# Altium schematic symbol library Connectors.SchLib: 36 symbols
Pins are listed as number, name and electrical type; pins without a type are passive.

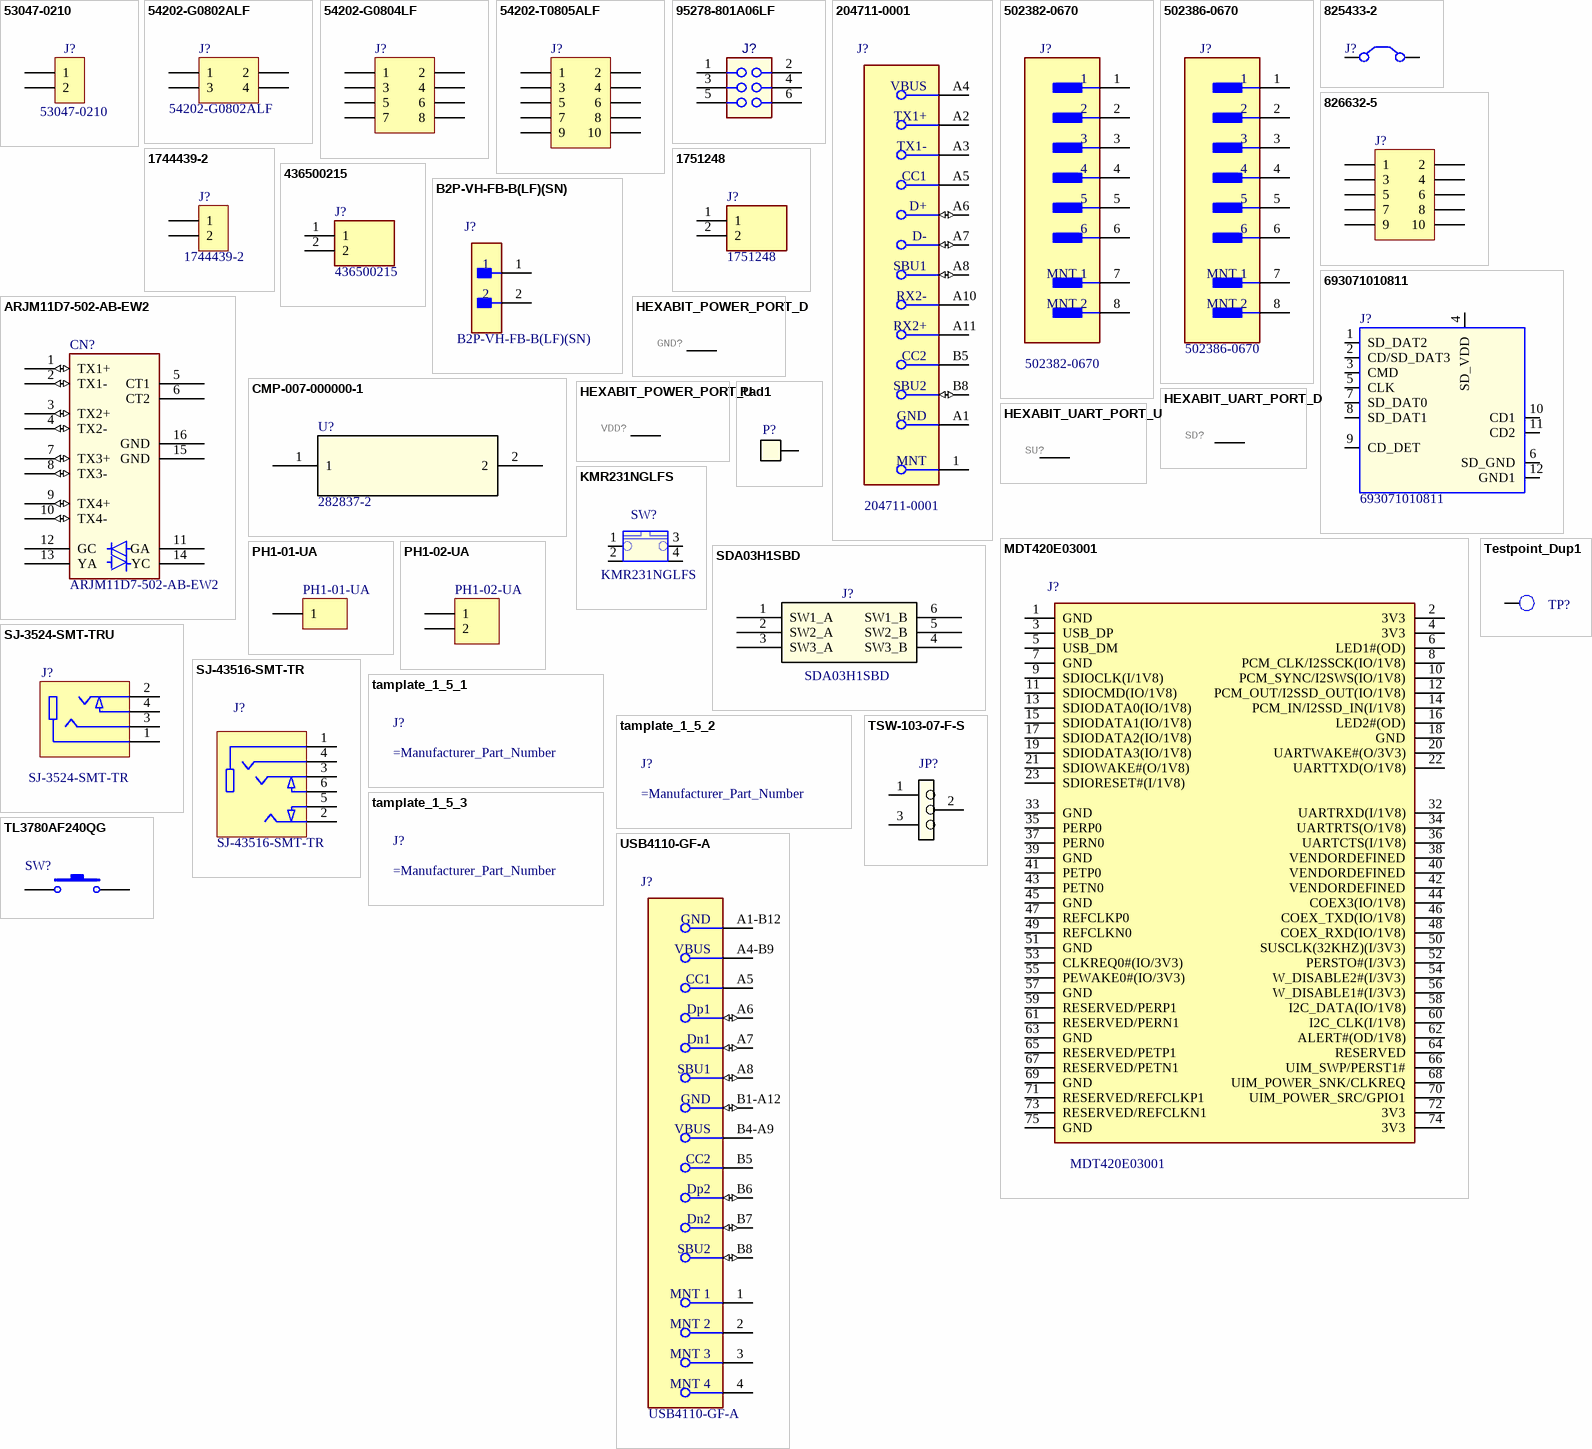
[diagram p0: symbols 53047-0210 to USB4110-GF-A]

## 53047-0210
designator J?
PicoBlade 53047 2-Position Shrouded Header Male Blade 0.049" (1.25mm) Natural Through Hole; Manufacturer: Molex; Library: Hexabitz; Plating: 154ConductorMaterial; Body Plating: Tin; Contact Resistance: 20mR; Current Rating: 1A; Voltage Rating: 125V; Number of Positions: 2; Gender: 29Gender; Insulation Resistance: 100MR; Max Current Rating: 3A; Glow Wire Compliant: 16Compliance; Supplier: Digikey; Supplier Part Number: WM1731-ND; RoHS: Yes; Category: Headers and Wire Housings; Stock: 12465; Pricing: 1=0.18, 10=0.151, 100=0.1279, 500=0.11412, 1000=0.10865, 5000=0.09698, 10000=0.09235 (USD); Mounting Technology: Through Hole; Contact Plating: Tin,Gold; Contact Material: Bronze,Brass,Tin; Housing Color: Black; Housing Material: Polyamide; Color: 50Colour; Min Operating Temperature: -40°C; Max Operating Temperature: 85°C; Number of Rows: 1; Packaging: Tray; Package Quantity: 5000; Termination: Solder; Number of Contacts: 2; Orientation: Vertical; Number of Circuits: 2; Series: PicoBlade; Voltage Rating (AC): 125V; Working Voltage: 125V; Voltage Rating (DC): 125V; Number of Poles: 2; Length: 71.1mm; Height: 11.43mm; Pitch: 1.25mm; Lead Pitch: 1.25mm; Depth: 6.6mm; Radiation Hardening: No; Lead Free: Lead Free; RoHS Compliant: Yes; Reach SVHC Compliant: Unknown; Flammability Rating: 5813Flammability; Supplier 1: Digikey; Supplier Part Number 1: WM1731-ND; Manufacturer Part Number: 53047-0210
footprint CON_MOLEX_53047-0210
pins: 1, 2

## 54202-G0802ALF
designator J?
Conn Unshrouded Header HDR 4 POS 2.54mm Solder ST SMD T/R; Manufacturer: Amphenol ICC / FCI; Library: Hexabitz; Current Rating: 3A; Voltage Rating: 1.5kV; Number of Positions: 4; Insulation Resistance: 5GR; Gender: Male; Row Spacing: 0.1inch; Supplier: Digikey; Supplier Part Number: 609-54202-G0802ALFDKR-ND; RoHS: Yes; Category: Connectors; Stock: 807; Pricing: 1=0.7, 10=0.598, 100=0.5083 (USD); Mounting Technology: Surface Mount; Color: Black; Contact Plating: Gold,GXT; Contact Material: Bronze; Housing Material: Thermoplastic; Packaging: Tape and Reel; Number of Rows: 2; Contact Gender: Male; Termination: Solder; Number of Contacts: 4; Package Quantity: 300; Series: BERGSTIK®, MezzSelect™, Basics+; Contact Type: Male Pin; Pitch: 2.54mm; Contact Mating Length: 0.23inch; Radiation Hardening: No; RoHS Compliant: Yes; ComponentLink1URL: https://datasheet.ciiva.com/10149/54202-10149869.pdf?src-supplier=Avnet; ComponentLink1Description: https://datasheet.ciiva.com/10149/54202-10149869.pdf?src-supplier=Avnet; Manufacturer Part Number: 54202-G0802ALF
footprint AMPHENOL_54202-G0802ALF
pins: 1, 2, 3, 4

## 54202-G0804LF
designator J?  (value not drawn)
Conn Unshrouded Header HDR 8 POS 2.54mm Solder ST SMD Bag; Manufacturer: Amphenol ICC / FCI; Library: Hexabitz; Current Rating: 3A; Voltage Rating: 1.5kV; Number of Positions: 8; Insulation Resistance: 5GR; Gender: Male; Row Spacing: 0.1inch; Supplier: Digikey; Supplier Part Number: 609-54202-G0804LF-ND; Manufacturer Part Number: 54202-G0804LF; RoHS: Yes; Category: Headers and Wire Housings; Stock: 15666; Pricing: 1=0.67, 10=0.566, 100=0.4811, 500=0.42942, 1000=0.4089, 5000=0.36501, 10000=0.34759 (USD); Mounting Technology: Surface Mount; Contact Plating: Gold,GXT; Contact Material: Bronze; Color: Black; Housing Color: Black; Housing Material: Thermoplastic; Min Operating Temperature: -65°C; Max Operating Temperature: 125°C; Number of Rows: 2; Contact Gender: Male; Termination: Solder; Number of Contacts: 8; Max Voltage Rating (AC): 1.5kV; Orientation: Straight; Package Quantity: 100; Packaging: Bulk; Series: BERGSTIK®, MezzSelect™, Basics+; Contact Type: Male Pin; Length: 10.16mm; Pitch: 2.54mm; Contact Mating Length: 0.23inch; Depth: 4.83mm; Radiation Hardening: No; Flammability Rating: UL94 V-0; RoHS Compliant: Yes; ComponentLink1URL: https://datasheet.ciiva.com/18669/54202-18669805.pdf?src-supplier=Digikey; ComponentLink1Description: https://datasheet.ciiva.com/18669/54202-18669805.pdf?src-supplier=Digikey; Supplier 1: Digikey; Supplier Part Number 1: 609-54202-G0804LF-ND
footprint 54202-G0804LF
pins: 1, 2, 3, 4, 5, 6, 7, 8

## 54202-T0805ALF
designator J?  (value not drawn)
Connector Bergstik 0.10-SMT.DOUBLE Row.tin | Amphenol Fci (amphenol Cs) 54202T0805ALF; Manufacturer: Amphenol Communications Solutions; Library: Hexabitz; Number of Contacts: 10NUMBER; Supplier: Digikey; Supplier Part Number: 609-5381-6-ND; Manufacturer Part Number: 54202-T0805ALF; RoHS: No; Category: Connectors; Stock: 730; Pricing: 1=0.78, 10=0.666, 100=0.5655 (USD); Contact Plating: 154ConductorMaterial; Color: 46Colour; Packaging: 10Packaging; Supplier 1: Digikey; Supplier Part Number 1: 609-5381-6-ND
footprint Header_10POS_0015910100
pins: 1, 2, 3, 4, 5, 6, 7, 8, 9, 10

## 95278-801A06LF
designator J?  (value not drawn)
Conn Unshrouded Header HDR 6 POS 2.54mm Solder ST Top Entry SMD BergStik® T/R; Manufacturer: Amphenol ICC / FCI; Current Rating: 3A; Voltage Rating: 1.5kV; Number of Positions: 6; Insulation Resistance: 5GR; Gender: Male; Row Spacing: 0.1inch; Library: Hexabitz; Supplier: Digikey; Supplier Part Number: 609-5161-6-ND; Manufacturer Part Number: 95278-801A06LF; RoHS: Yes; Category: Connectors; Stock: 5681; Pricing: 1=0.95, 10=0.809, 100=0.6874 (USD); Mounting Technology: Surface Mount; Contact Plating: Gold,GXT; Contact Material: Bronze; Color: Black; Housing Color: Black; Housing Material: Thermoplastic; Min Operating Temperature: -65°C; Max Operating Temperature: 125°C; Number of Rows: 2; Contact Gender: Male; Termination: Solder; Max Voltage Rating (AC): 1.5kV; Number of Contacts: 6; Orientation: Straight; Packaging: Tape and Reel; Package Quantity: 350; Series: BERGSTIK®, MezzSelect™, Basics+; Contact Type: Male Pin; Length: 7.62mm; Pitch: 2.54mm; Contact Mating Length: 0.232inch; Depth: 4.83mm; Radiation Hardening: No; Flammability Rating: UL94 V-0; RoHS Compliant: Yes; ComponentLink1URL: https://datasheet.ciiva.com/724/95278-724965.pdf?src-supplier=Digikey; ComponentLink1Description: https://datasheet.ciiva.com/724/95278-724965.pdf?src-supplier=Digikey; ComponentLink2URL: https://datasheet.ciiva.com/10146/95278-10146127.pdf?src-supplier=Avnet; ComponentLink2Description: https://datasheet.ciiva.com/10146/95278-10146127.pdf?src-supplier=Avnet; Supplier 1: Digikey; Supplier Part Number 1: 609-5161-6-ND
footprint 95278801A06LF
pins: 1 A1, 2 B1, 3 A2, 4 B2, 5 A3, 6 B3

## 204711-0001
designator J?
USB Connector, 24 Contact(s), Female, Straight, Surface Mount Terminal, Locking, Receptacle; Manufacturer: Molex; Library: Hexabitz; Plating: Gold; USB Standard: USB 3.1; Number of Circuits: 24; Voltage Rating: 30V; Supplier: Digikey; Supplier Part Number: 900-2047110001DKR-ND; RoHS: No; Category: USB Connectors; Stock: 13074; Pricing: 1=2.89, 10=2.457, 25=2.3028, 50=2.1928, 100=2.088, 250=1.95724 (USD); Pins: 24; Contact Material: Nickel,Gold; Contact Plating: Gold; Min Operating Temperature: -30°C; Max Operating Temperature: 85°C; Gender: Female; Number of Contacts: 24; Number of Rows: 2; Orientation: Vertical; Height: 9.25mm; ComponentLink1URL: http://www.farnell.com/datasheets/2860596.pdf?src-supplier=Newark; ComponentLink1Description: http://www.farnell.com/datasheets/2860596.pdf?src-supplier=Newark; ComponentLink2URL: https://datasheet.octopart.com/2047110001-Molex-datasheet-151917719.pdf?src-supplier=Sager+Electronics; ComponentLink2Description: https://datasheet.octopart.com/2047110001-Molex-datasheet-151917719.pdf?src-supplier=Sager+Electronics; Manufacturer Part Number: 204711-0001
footprint FP-204711-0001-MFG; pin to pad A1>A1+A12+B1+B12 A1-B12>none A4>A4+A9+B4+B9 A4-B9>none A5>none A6>none A7>none A8>none B1-A12>none B4-A9>none B5>none B6>none B7>none B8>none
pins: 1 MNT, A1 GND, A2 TX1+, A3 TX1-, A4 VBUS (power), A5 CC1 (power), A6 Dp1 (io), A7 Dn1 (io), A8 SBU1 (io), A10 RX2-, A11 RX2+, B5 CC2 (power), B8 SBU2 (io)
text: D+; D-

## 502382-0670
designator J?
Board Connector, 6 Contact(s), 1 Row(s), Female, Straight, Surface Mount Terminal, Receptacle; Manufacturer: Molex; Library: Hexabitz; Plating: 154ConductorMaterial; Insulation Resistance: 100MR; Glow Wire Compliant: 16Compliance; Supplier: Digikey; Supplier Part Number: WM4783DKR-ND; RoHS: Yes; Category: Headers and Wire Housings; Stock: 20732; Pricing: 1=0.67, 10=0.568, 100=0.4827, 500=0.43084 (USD); Material: 4386ConductorMaterial; Flammability Rating: 5813Flammability; ComponentLink1URL: https://datasheet.ciiva.com/5148/5023820670-pcb-receptacles-179370-5148504.pdf?src-supplier=Mouser; ComponentLink1Description: https://datasheet.ciiva.com/5148/5023820670-pcb-receptacles-179370-5148504.pdf?src-supplier=Mouser; ComponentLink2URL: https://datasheet.ciiva.com/11746/0900766b80d889a4-11746594.pdf?src-supplier=Rs; ComponentLink2Description: https://datasheet.ciiva.com/11746/0900766b80d889a4-11746594.pdf?src-supplier=Rs; ComponentLink3URL: https://datasheet.ciiva.com/26288/5023820670-pcb-receptacles-26288709.pdf?src-supplier=Onlinecomponents.com; ComponentLink3Description: https://datasheet.ciiva.com/26288/5023820670-pcb-receptacles-26288709.pdf?src-supplier=Onlinecomponents.com; ComponentLink4URL: https://datasheet.ciiva.com/10086/5023820670-pcb-receptacles-10086471.pdf?src-supplier=Avnet; ComponentLink4Description: https://datasheet.ciiva.com/10086/5023820670-pcb-receptacles-10086471.pdf?src-supplier=Avnet; ComponentLink5URL: https://datasheet.ciiva.com/46443/1482060-46443515.pdf?src-supplier=Element14; ComponentLink5Description: https://datasheet.ciiva.com/46443/1482060-46443515.pdf?src-supplier=Element14; ComponentLink6URL: https://datasheet.ciiva.com/14156/502382-2-7pol-eng-datasheet-14156156.pdf?src-supplier=Distrelec; ComponentLink6Description: https://datasheet.ciiva.com/14156/502382-2-7pol-eng-datasheet-14156156.pdf?src-supplier=Distrelec; ComponentLink7URL: https://datasheet.ciiva.com/24419/5023820670-pcb-receptacles-24419895.pdf?src-supplier=Onlinecomponents.com; ComponentLink7Description: https://datasheet.ciiva.com/24419/5023820670-pcb-receptacles-24419895.pdf?src-supplier=Onlinecomponents.com; ComponentLink8URL: https://datasheet.ciiva.com/756/5023820270-sd-756002.pdf?src-supplier=Digikey; ComponentLink8Description: https://datasheet.ciiva.com/756/5023820270-sd-756002.pdf?src-supplier=Digikey; ComponentLink9URL: https://datasheet.ciiva.com/756/5023820270-sd-756009.pdf?src-supplier=Digikey; ComponentLink9Description: https://datasheet.ciiva.com/756/5023820270-sd-756009.pdf?src-supplier=Digikey; ComponentLink10URL: https://datasheet.ciiva.com/756/5023820270-sd-756016.pdf?src-supplier=Digikey; ComponentLink10Description: https://datasheet.ciiva.com/756/5023820270-sd-756016.pdf?src-supplier=Digikey; Supplier 1: Digikey; Supplier Part Number 1: WM4783DKR-ND; Supplier 2: Mouser; Supplier Part Number 2: 538-502382-0670; Manufacturer Part Number: 502382-0670
footprint FP-BM06B-GHS-TBT_LF_SN-MFG
pins: 1, 2, 3, 4, 5, 6, 7 MNT 1, 8 MNT 2

## 502386-0670
designator J?
1.25mm Pitch CLIK-Mate Wire-to-Board PCB Receptacle, Single Row, Right-Angle, Tin (Sn) Plating, 6 Circuits; Manufacturer: Molex; Library: Hexabitz; Plating: 154ConductorMaterial; Insulation Resistance: 100MR; Glow Wire Compliant: 16Compliance; Supplier: Digikey; Supplier Part Number: WM3917CT-ND; RoHS: Yes; Category: Headers and Wire Housings; Stock: 12558; Pricing: 1=0.72, 10=0.609, 25=0.5708, 50=0.5436, 100=0.5175, 250=0.48508, 500=0.4619 (USD); Material: 4386ConductorMaterial; Flammability Rating: 5813Flammability; ComponentLink1URL: https://datasheet.ciiva.com/755/5023860670-sd-755808.pdf?src-supplier=Digikey; ComponentLink1Description: https://datasheet.ciiva.com/755/5023860670-sd-755808.pdf?src-supplier=Digikey; ComponentLink2URL: https://datasheet.ciiva.com/7167/1630903-7167418.pdf?src-supplier=Newark; ComponentLink2Description: https://datasheet.ciiva.com/7167/1630903-7167418.pdf?src-supplier=Newark; ComponentLink3URL: https://datasheet.ciiva.com/5159/5023860670-pcb-receptacles-179492-5159020.pdf?src-supplier=Mouser; ComponentLink3Description: https://datasheet.ciiva.com/5159/5023860670-pcb-receptacles-179492-5159020.pdf?src-supplier=Mouser; ComponentLink4URL: https://datasheet.ciiva.com/30166/4405023860670-pcb-receptacles-30166544.pdf?src-supplier=Onlinecomponents.com; ComponentLink4Description: https://datasheet.ciiva.com/30166/4405023860670-pcb-receptacles-30166544.pdf?src-supplier=Onlinecomponents.com; ComponentLink5URL: https://datasheet.ciiva.com/9468/5023860670-pcb-receptacles-9468008.pdf?src-supplier=Avnet; ComponentLink5Description: https://datasheet.ciiva.com/9468/5023860670-pcb-receptacles-9468008.pdf?src-supplier=Avnet; ComponentLink6URL: https://datasheet.ciiva.com/46443/5023860670-sd-46443516.pdf?src-supplier=Element14; ComponentLink6Description: https://datasheet.ciiva.com/46443/5023860670-sd-46443516.pdf?src-supplier=Element14; ComponentLink7URL: https://datasheet.ciiva.com/755/5023860670-sd-755817.pdf?src-supplier=Digikey; ComponentLink7Description: https://datasheet.ciiva.com/755/5023860670-sd-755817.pdf?src-supplier=Digikey; Supplier 1: Digikey; Supplier Part Number 1: WM3917CT-ND; Supplier 2: Mouser; Supplier Part Number 2: 538-502386-0670; Manufacturer Part Number: 502386-0670
footprint FP-SM06B-GHS-TB_LF_SN-MFG
pins: 1, 2, 3, 4, 5, 6, 7 MNT 1, 8 MNT 2

## 825433-2
designator J?  (value not drawn)
Conn Unshrouded Header HDR 2 POS 2.54mm Solder ST Thru-Hole Automotive Box; Manufacturer: TE Connectivity; Library: Hexabitz; Contact Style: 4753ConnectorType; Insulation Resistance: 5GR; Gender: 29Gender; Lead Length: 3.19786mm; Supplier: Digikey; Supplier Part Number: A106464-ND; Manufacturer Part Number: 825433-2; RoHS: Yes; Category: Headers and Wire Housings; Stock: 28064; Pricing: 1=0.47, 10=0.4, 100=0.3398, 500=0.30326, 3000=0.26723, 6000=0.25448, 12000=0.24741 (USD); ELV: 5681ELVCompliant; Lead Free: 5697LeadFree; ComponentLink1URL: https://datasheet.ciiva.com/11746/0900766b800304ef-11746504.pdf?src-supplier=Rs; ComponentLink1Description: https://datasheet.ciiva.com/11746/0900766b800304ef-11746504.pdf?src-supplier=Rs; ComponentLink2URL: https://datasheet.ciiva.com/29369/001094852-da-01-en-stiftleiste-1-reihig-0-0825433-2-29369866.pdf?src-supplier=Conrad; ComponentLink2Description: https://datasheet.ciiva.com/29369/001094852-da-01-en-stiftleiste-1-reihig-0-0825433-2-29369866.pdf?src-supplier=Conrad; ComponentLink3URL: https://datasheet.ciiva.com/6814/eng-cd-825433-s-basefilename-6814585.pdf?src-supplier=Digikey; ComponentLink3Description: https://datasheet.ciiva.com/6814/eng-cd-825433-s-basefilename-6814585.pdf?src-supplier=Digikey; Supplier 1: Digikey; Supplier Part Number 1: A106464-ND
footprint FP-M20-9990245-MFG
pins: 1 C1, 2 C2

## 826632-5
designator J?  (value not drawn)
Conn Unshrouded Header HDR 10 POS 2.54mm Solder ST Thru-Hole Automotive Box; Manufacturer: TE Connectivity; Library: Hexabitz; Gender: 29Gender; Contact Style: 4753ConnectorType; Insulation Resistance: 5GR; Lead Length: 3.19786mm; Supplier: Mouser; Supplier Part Number: 571-826632-5; Manufacturer Part Number: 826632-5; RoHS: Yes; Category: Headers and Wire Housings; Stock: 4620; Pricing: 1=1.21, 10=1.21, 50=1.21, 100=1.21, 1000=1.09, 10000=0.777 (USD); Lead Free: 5697LeadFree; ELV: 5681ELVCompliant; ComponentLink1URL: https://datasheet.ciiva.com/30067/8266325-30067120.pdf?src-supplier=Onlinecomponents.com; ComponentLink1Description: https://datasheet.ciiva.com/30067/8266325-30067120.pdf?src-supplier=Onlinecomponents.com; ComponentLink2URL: https://datasheet.ciiva.com/11747/0900766b80d7c358-11747876.pdf?src-supplier=Rs; ComponentLink2Description: https://datasheet.ciiva.com/11747/0900766b80d7c358-11747876.pdf?src-supplier=Rs; ComponentLink3URL: https://datasheet.ciiva.com/29369/001094804-da-01-en-stiftleiste-2-reihig-0-0826632-5-29369713.pdf?src-supplier=Conrad; ComponentLink3Description: https://datasheet.ciiva.com/29369/001094804-da-01-en-stiftleiste-2-reihig-0-0826632-5-29369713.pdf?src-supplier=Conrad; ComponentLink4URL: https://datasheet.ciiva.com/6816/eng-cd-826629-aa-basefilename-6816815.pdf?src-supplier=Digikey; ComponentLink4Description: https://datasheet.ciiva.com/6816/eng-cd-826629-aa-basefilename-6816815.pdf?src-supplier=Digikey; Supplier 1: Mouser; Supplier Part Number 1: 571-826632-5
footprint HDR2X5
pins: 1, 2, 3, 4, 5, 6, 7, 8, 9, 10

## 1744439-2
designator J?
Conn Shrouded Header HDR 2 POS 2.5mm Crimp ST Cable Mount Bag/Box; Manufacturer: TE Connectivity AMP; Library: Hexabitz; Number of Contacts: 2; Gender: Male; Connector Type: Plug,Header,Pin; Wire/Cable Type: Discrete; Backwall/Post Interruptions: No (Without); Connector System: Wire-to-Board; Contact Retention: Yes (With); PCB Mount Retention: With; PCB Mounting Orientation: Vertical; Contact Current Rating: 4.5A; Contact Style: Straight; Plating Thickness: 2.03um; Tail Length: 0.133inch; Wire/Cable Gauge: 18AWG; Supplier: Digikey; Supplier Part Number: A107503-ND; RoHS: Yes; Category: Connectors; Stock: 96; Pricing: 1=0.41, 10=0.347, 100=0.2944, 600=0.25938, 1200=0.247, 5400=0.22212, 10200=0.21237 (USD); Mounting Technology: Through Hole; Contact Plating: Tin,Bright; Contact Material: Copper Alloy; Housing Color: White; Housing Material: Nylon; Contact Shape: Circular; Contact Finish - Mating: TIN; Insulation Material: Nylon; Insulation Color: Natural; Min Operating Temperature: -67°C; Max Operating Temperature: 221°C; Number of Rows: 1; Packaging: Bag; Termination: Kinked Pin; Orientation: Vertical; Mating Alignment: Yes (With); Mating Retention: Yes (With); Number of Positions: 2; PCB Mount Alignment: No (Without); Package Quantity: 600; Strain Relief: No (Without); Fastening Type: Friction; Series: Economy Power 2.5; Contact Type: Male Pin; Length: 7.3mm; Width: 9.58mm; Height: 0.315inch; Pitch: 2.5mm; Radiation Hardening: No; ELV: Compliant; Flammability Rating: UL94 V-0; RoHS Compliant: Yes; ComponentLink1URL: https://www.te.com/commerce/DocumentDelivery/DDEController?Action=srchrtrv&amp;DocNm=1744439&amp;DocType=Customer+Drawing&amp;DocLang=English&src-supplier=Digikey; ComponentLink1Description: https://www.te.com/commerce/DocumentDelivery/DDEController?Action=srchrtrv&amp;DocNm=1744439&amp;DocType=Customer+Drawing&amp;DocLang=English&src-supplier=Digikey; ComponentLink2URL: http://www.te.com/commerce/DocumentDelivery/DDEController?Action=srchrtrv&DocNm=7-1773461-6EP2.5&DocType=Data+Sheet&DocLang=English&src-supplier=Avnet; ComponentLink2Description: http://www.te.com/commerce/DocumentDelivery/DDEController?Action=srchrtrv&DocNm=7-1773461-6EP2.5&DocType=Data+Sheet&DocLang=English&src-supplier=Avnet; Supplier 1: Digikey; Supplier Part Number 1: A107503-ND; Supplier 2: Mouser; Supplier Part Number 2: 571-1744439-2; Manufacturer Part Number: 1744439-2
footprint 17444392
pins: 1, 2

## 1751248
designator J?
Terminal Block; 10 A; 160 V; 3.5 mm; 26 to 16 AWG; 2; Screw; Solder; 2.5 kV; PA; Manufacturer_Name: Phoenix Contact; Voltage Rating: 200V; Number of Poles: 2; Max Current Rating: 12A; Current Rating: 13.5A; Max Supply Voltage: 160V; Number of Levels: 1; Current: 10A; Voltage: 300V; Gender: Male; Wire/Cable Gauge: 30AWG; Wire Gauge (Max): 26AWG; Wire Gauge (Min): 16AWG; Pitch: 3.5mm; Stripping Length: 5mm; Approvals: UL,CSA,cULus,CB,EAC; Library: Hexabitz; Datasheet Link: https://datasheet.datasheetarchive.com/originals/distributors/SFDatasheet-2/sf-00051377.pdf; Height: 8.65mm; Manufacturer_Part_Number: 1751248; Mouser Part Number: 651-1751248; Mouser Price/Stock: https://www.mouser.co.uk/ProductDetail/Phoenix-Contact/1751248?qs=bOnNDoERoR01kuhsqWf5xQ%3D%3D; Arrow Part Number: 1751248; Arrow Price/Stock: https://www.arrow.com/en/products/1751248/phoenix-contact?utm_currency=USD&region=nac; Supplier: Digikey; Supplier Part Number: 277-5719-ND; Manufacturer: Phoenix Contact; Manufacturer Part Number: 1751248; RoHS: Yes; Category: Terminal Blocks; Stock: 1969; Pricing: 1=1.54, 10=1.106, 25=0.996, 50=0.9814 (USD); Mounting Technology: Through Hole; Pins: 2; Housing Color: 49Colour; Color: Green; Weight: 0.040565oz; Material: Polyamide; Housing Material: Polyamide; Contact Material: Tin; Insulation Material: 4261ConductorMaterial; Min Operating Temperature: -40°C; Series: COMBICON MKDS; Packaging: Bulk; Number of Rows: 1; Number of Positions Per Level: 2; Termination: Screw; Number of Positions: 2; Number of Contacts: 2; Number of Circuits: 2; Orientation: Straight; Connector Type: Screw; Length: 7.3mm; Width: 12mm; Depth: 7.3mm; Radiation Hardening: No; RoHS Compliant: Yes; Lead Free: 5697LeadFree; Flammability Rating: UL94 V-0; Reach SVHC Compliant: Unknown; ComponentLink1URL: https://datasheet.ciiva.com/6745/1751248-6745498.pdf?src-supplier=Digikey; ComponentLink1Description: https://datasheet.ciiva.com/6745/1751248-6745498.pdf?src-supplier=Digikey; ComponentLink2URL: https://datasheet.ciiva.com/16046/1751248-16046278.pdf?src-supplier=Onlinecomponents.com; ComponentLink2Description: https://datasheet.ciiva.com/16046/1751248-16046278.pdf?src-supplier=Onlinecomponents.com; Supplier 1: Digikey; Supplier Part Number 1: 277-5719-ND
footprint 1751248
pins: 1, 2

## 436500215
designator J?
MOLEX 43650-0215 Header Single Row 180° 2p Tin Plating PCB Peg, GW Compatible; Library: Hexabitz; Plating: 154ConductorMaterial; Contact Resistance: 10mR; Max Current Rating: 5A; Voltage Rating: 600V; Max Voltage Rating (DC): 250.25kV; Number of Positions: 2; Max Voltage Rating (AC): 250V; Gender: 29Gender; Pitch: 3mm; Glow Wire Compliant: 15Compliance; Supplier: Digikey; Supplier Part Number: WM1917-ND; Manufacturer: Molex; Manufacturer Part Number: 43650-0215; RoHS: Yes; Category: Headers and Wire Housings; Stock: 691; Pricing: 1=0.89, 10=0.754, 100=0.6409, 500=0.57202, 3264=0.50108, 6528=0.47718, 13056=0.45442 (USD); Mounting Technology: Through Hole; Contact Material: Brass,Tin; Contact Plating: Tin; Housing Color: Black; Housing Material: Thermoplastic; Min Operating Temperature: -40°C; Max Operating Temperature: 105°C; Packaging: Tray; Termination: Solder; Orientation: Vertical; Number of Rows: 1; Current Rating: 5A; Package Quantity: 3264; Number of Contacts: 2; Number of Circuits: 2; Series: 43650; Voltage Rating (DC): 250V; Length: 9.65mm; Height: 9.9mm; Depth: 4.57mm; Radiation Hardening: No; RoHS Compliant: Yes; Reach SVHC Compliant: Unknown; Flammability Rating: 5813Flammability; Halogen Free: 5696HalogenFree; Lead Free: 5697LeadFree; ComponentLink1URL: https://datasheet.ciiva.com/26916/getdatasheetpartid-256029-26916528.pdf?src-supplier=Verical; ComponentLink1Description: https://datasheet.ciiva.com/26916/getdatasheetpartid-256029-26916528.pdf?src-supplier=Verical; ComponentLink2URL: https://datasheet.ciiva.com/9432/0436500215-pcb-headers-9432850.pdf?src-supplier=Avnet; ComponentLink2Description: https://datasheet.ciiva.com/9432/0436500215-pcb-headers-9432850.pdf?src-supplier=Avnet; ComponentLink3URL: https://datasheet.ciiva.com/16085/0436500215-pcb-headers-16085668.pdf?src-supplier=Onlinecomponents.com; ComponentLink3Description: https://datasheet.ciiva.com/16085/0436500215-pcb-headers-16085668.pdf?src-supplier=Onlinecomponents.com; ComponentLink4URL: https://datasheet.ciiva.com/3943/239530436500215-pcb-headers-3943268.pdf?src-supplier=Arrow+Electronics; ComponentLink4Description: https://datasheet.ciiva.com/3943/239530436500215-pcb-headers-3943268.pdf?src-supplier=Arrow+Electronics; ComponentLink5URL: https://datasheet.ciiva.com/7920/1889390-7920892.pdf?src-supplier=Element14; ComponentLink5Description: https://datasheet.ciiva.com/7920/1889390-7920892.pdf?src-supplier=Element14; Supplier 1: Digikey; Supplier Part Number 1: WM1917-ND; Supplier 2: Mouser; Supplier Part Number 2: 538-43650-0215
footprint CONN_SD-43650-006_02_MOL
pins: 1, 2

## 693071010811
designator J?
Micro Sd Card Connector-push And Push-with Card Detection 8 Pins Pcb Connector; Manufacturer: Wurth Electronics; Library: Hexabitz; Number of Contacts: 8; Current Rating: 500mA; Insulation Resistance: 1GR; Operating Supply Voltage: 100V; Memory Format: 4498,11064MemoryType; Supplier: Digikey; Supplier Part Number: 732-3819-6-ND; RoHS: Yes; Category: Memory Connectors; Stock: 9778; Pricing: 1=3.11, 10=3.04, 50=2.68, 100=2.56, 500=2.19 (USD); Mounting Technology: Surface Mount; Contact Material: Copper Alloy,Copper,Gold; Contact Plating: Gold; Min Operating Temperature: -25°C; Max Operating Temperature: 85°C; Package Quantity: 1; Packaging: Cut Tape; Series: -; Voltage Rating: 100V; Length: 14mm; Width: 15.2mm; Height: 1.98mm; RoHS Compliant: Yes; Reach SVHC Compliant: Unknown; Lead Free: Lead Free; ComponentLink1URL: https://datasheet.ciiva.com/6935/693071010811-6935152.pdf?src-supplier=Digikey; ComponentLink1Description: https://datasheet.ciiva.com/6935/693071010811-6935152.pdf?src-supplier=Digikey; ComponentLink2URL: https://datasheet.ciiva.com/25605/0900766b81113f2e-25605369.pdf?src-supplier=Rs; ComponentLink2Description: https://datasheet.ciiva.com/25605/0900766b81113f2e-25605369.pdf?src-supplier=Rs; ComponentLink3URL: https://datasheet.ciiva.com/1104/1759178-1104796.pdf?src-supplier=Element14; ComponentLink3Description: https://datasheet.ciiva.com/1104/1759178-1104796.pdf?src-supplier=Element14; ComponentLink4URL: https://datasheet.ciiva.com/6935/693071010811-6935146.pdf?src-supplier=Digikey; ComponentLink4Description: https://datasheet.ciiva.com/6935/693071010811-6935146.pdf?src-supplier=Digikey; Supplier 1: Digikey; Supplier Part Number 1: 732-3819-6-ND; Manufacturer Part Number: 693071010811
footprint 693071010811 (Micro SD Card Connector Push & Push - with Card Detection - 8 Pins)
pins: 1 SD_DAT2, 2 CD/SD_DAT3, 3 CMD, 4 SD_VDD, 5 CLK, 6 SD_GND, 7 SD_DAT0, 8 SD_DAT1, 9 CD_DET, 10 CD1, 11 CD2, 12 GND1

## ARJM11D7-502-AB-EW2
designator CN?
Conn RJ-45 F 8 POS 1.27mm Solder RA Thru-Hole 14 Terminal 1 Port Tray; Manufacturer: Abracon; Library: Hexabitz; Supplier: Digikey; Supplier Part Number: 535-14152-ND; RoHS: Yes; Category: Modular / Ethernet Connectors; Stock: 7796; Pricing: 1=4.09, 10=3.123, 25=2.9524, 50=2.7716, 100=2.7341, 250=2.56904, 500=2.47842, 2000=2.35771, 4000=2.27793 (USD); ComponentLink1URL: https://abracon.com/Magnetics/ARJM11.pdf?src-supplier=Digikey; ComponentLink1Description: https://abracon.com/Magnetics/ARJM11.pdf?src-supplier=Digikey; ComponentLink2URL: https://datasheet.octopart.com/ARJM11D7-502-AB-EW2-Abracon-datasheet-97040553.pdf?src-supplier=Electro+Sonic; ComponentLink2Description: https://datasheet.octopart.com/ARJM11D7-502-AB-EW2-Abracon-datasheet-97040553.pdf?src-supplier=Electro+Sonic; Supplier 1: Digikey; Supplier Part Number 1: 535-14152-ND; Manufacturer Part Number: ARJM11D7-502-AB-EW2
footprint FP-ARJM11D7-502-AB-EW2-MFG
pins: 1 TX1+ (io), 2 TX1- (io), 3 TX2+ (io), 4 TX2- (io), 5 CT1, 6 CT2, 7 TX3+ (io), 8 TX3- (io), 9 TX4+ (io), 10 TX4- (io), 11 GA, 12 GC, 13 YA, 14 YC, 15 GND (power), 16 GND (power)

## B2P-VH-FB-B(LF)(SN)
designator J?
Board Connector, 2 Contact(s), 1 Row(s), Male, Straight, 0.156 inch Pitch, Solder Terminal; Manufacturer: JST; Library: Hexabitz; Number of Contacts: 2NUMBER; Supplier: Mouser; Supplier Part Number: 306-B2PVHFBBLFSN; RoHS: Yes; Category: Headers and Wire Housings; Stock: 44978; Pricing: 1=0.23, 10=0.181, 50=0.181, 100=0.181, 1000=0.126, 10000=0.103 (USD); Lead Free: 5697LeadFree; ComponentLink1URL: https://datasheet.ciiva.com/16417/jstb2p-vh-fb-b-lf-sn-16417693.pdf?src-supplier=Future+Electronics; ComponentLink1Description: https://datasheet.ciiva.com/16417/jstb2p-vh-fb-b-lf-sn-16417693.pdf?src-supplier=Future+Electronics; ComponentLink2URL: https://datasheet.ciiva.com/732/evh-732947.pdf?src-supplier=Digikey; ComponentLink2Description: https://datasheet.ciiva.com/732/evh-732947.pdf?src-supplier=Digikey; Supplier 1: Mouser; Supplier Part Number 1: 306-B2PVHFBBLFSN; Manufacturer Part Number: B2P-VH-FB-B(LF)(SN)
footprint FP-B2P-VH-FB-B_LF_SN-MFG
pins: 1, 2

## CMP-007-000000-1
designator U?, comment 282837-2
TERMI-BLOK PCB MOUNT 2P; Manufacturer_Name: TE Connectivity; Manufacturer_Part_Number: 282837-2; Copyright: Copyright (C) 2025 Ultra Librarian. All rights reserved.; RefDes: RefDes; Type: Type; Design Item ID: 282837-2; Source: 282837-2.SchLib; Supplier 1: Newark; Supplier Part Number 1: 282837-2
footprint 282837-2_TYC
pins: 1, 2

## HEXABIT_POWER_PORT_D
designator GND?, comment HEXABIT_UART_PORT  (value not drawn)  (no BOM)
footprint HEXABIT_POWER_PORT_D
pins: Pwr_D

## HEXABIT_POWER_PORT_U
designator VDD?, comment HEXABIT_UART_PORT  (value not drawn)  (no BOM)
footprint HEXABIT_POWER_PORT_U
pins: Pwr_U

## HEXABIT_UART_PORT_D
designator SD?, comment HEXABIT_UART_PORT  (value not drawn)  (no BOM)
footprint HEXABIT_UART_PORT_D
pins: UART_D

## HEXABIT_UART_PORT_U
designator SU?, comment HEXABIT_UART_PORT  (value not drawn)  (no BOM)
footprint HEXABIT_UART_PORT_U
pins: UART_U

## KMR231NGLFS
designator SW?
Switch Tactile N.O. SPST Button Gull Wing 0.05A 32VDC 1VA 150000Cycles 3N SMD Automotive T/R; Manufacturer: ITT C&K; Library: Hexabitz; Max Current Rating: 50mA; Max Voltage Rating (DC): 32V; Illumination Type: Non-Illuminated; Switch Travel: 0.25mm; Switch Function: Off-Mom; Actuator Type: Standard; Actuator Length: 0.5mm; Supplier: Digikey; Supplier Part Number: CKN10246DKR-ND; RoHS: Yes; Category: Tactile Switches; Stock: 40100; Pricing: 1=0.87, 10=0.741, 25=0.6892, 100=0.6149, 250=0.56956, 500=0.53798, 1000=0.509, 2500=0.47481 (USD); Mounting Technology: Surface Mount; Case/Package: SMD/SMT; Mechanical Life: 150000Cycles; Contact Material: Silver; Contact Plating: Silver; Min Operating Temperature: -40°C; Max Operating Temperature: 85°C; Throw Configuration: SPST; Operating Force: 3N; Termination: Gull Wing; Packaging: Tape and Reel; Current Rating: 50mA; Package Quantity: 7000; Voltage Rating (DC): 32V; Orientation: Straight; Series: KMR2; Length: 4.6mm; Depth: 2.8mm; RoHS Compliant: Yes; ComponentLink1URL: https://datasheet.ciiva.com/2900/kmr2-9aug12-2900219.pdf?src-supplier=Digikey; ComponentLink1Description: https://datasheet.ciiva.com/2900/kmr2-9aug12-2900219.pdf?src-supplier=Digikey; ComponentLink2URL: https://datasheet.ciiva.com/2900/kmr2-9aug12-2900220.pdf?src-supplier=Digikey; ComponentLink2Description: https://datasheet.ciiva.com/2900/kmr2-9aug12-2900220.pdf?src-supplier=Digikey; ComponentLink3URL: https://datasheet.ciiva.com/2900/kmr2-9aug12-2900221.pdf?src-supplier=Digikey; ComponentLink3Description: https://datasheet.ciiva.com/2900/kmr2-9aug12-2900221.pdf?src-supplier=Digikey; Supplier 1: Digikey; Supplier Part Number 1: CKN10246DKR-ND; Manufacturer Part Number: KMR231NGLFS
footprint SW_KMR231NGLFS_VST_2
pins: 1, 2, 3, 4

## MDT420E03001
designator J?
Conn PCI Express Card SKT 75 POS 0.5mm Solder RA SMD T/R; Manufacturer: Amphenol Commercial; Library: Hexabitz; Gender: Female; Number of Positions: 67; Pitch: 0.02inch; Supplier: Digikey; Supplier Part Number: MDT420E03001DKR-ND; Manufacturer Part Number: MDT420E03001; RoHS: Yes; Category: Card Edge Connectors; Stock: 3503; Pricing: 1=1.87, 10=1.591, 25=1.4908, 50=1.4196, 100=1.3518, 250=1.26712 (USD); Mounting Technology: Surface Mount; Pins: 67; Color: Black; Contact Plating: Gold; Insulation Material: Polymer; Contact Material: Copper Alloy; Min Operating Temperature: -40°C; Max Operating Temperature: 80°C; Number of Rows: 2; Termination: Solder; Packaging: Cut Tape; Series: M.2; Contact Type: -; ComponentLink1URL: https://www.amphenolcanada.com/ProductSearch/pdf/MDT_BRO.pdf?src-supplier=Digikey; ComponentLink1Description: https://www.amphenolcanada.com/ProductSearch/pdf/MDT_BRO.pdf?src-supplier=Digikey; ComponentLink2URL: https://www.amphenolcanada.com/ProductSearch/drawings/AC/MDTXXXXXX001.pdf?src-supplier=Digikey; ComponentLink2Description: https://www.amphenolcanada.com/ProductSearch/drawings/AC/MDTXXXXXX001.pdf?src-supplier=Digikey; Supplier 1: Digikey; Supplier Part Number 1: MDT420E03001DKR-ND; Supplier 2: Mouser; Supplier Part Number 2: 523-MDT420E03001
footprint AMPHENOL_MDT420E03001
pins: 1 GND, 2 3V3, 3 USB_DP (power), 4 3V3, 5 USB_DM, 6 LED1#(OD), 7 GND, 8 PCM_CLK/I2SSCK(IO/1V8), 9 SDIOCLK(I/1V8) (power), 10 PCM_SYNC/I2SWS(IO/1V8), 11 SDIOCMD(IO/1V8), 12 PCM_OUT/I2SSD_OUT(IO/1V8), 13 SDIODATA0(IO/1V8), 14 PCM_IN/I2SSD_IN(I/1V8), 15 SDIODATA1(IO/1V8) (power), 16 LED2#(OD), 17 SDIODATA2(IO/1V8), 18 GND, 19 SDIODATA3(IO/1V8), 20 UARTWAKE#(O/3V3), 21 SDIOWAKE#(O/1V8) (power), 22 UARTTXD(O/1V8), 23 SDIORESET#(I/1V8), 32 UARTRXD(I/1V8), 33 GND, 34 UARTRTS(O/1V8), 35 PERP0, 36 UARTCTS(I/1V8), 37 PERN0 (power), 38 VENDORDEFINED, 39 GND, 40 VENDORDEFINED, 41 PETP0, 42 VENDORDEFINED, 43 PETN0 (power), 44 COEX3(IO/1V8), 45 GND, 46 COEX_TXD(IO/1V8), 47 REFCLKP0, 48 COEX_RXD(IO/1V8), 49 REFCLKN0 (power), 50 SUSCLK(32KHZ)(I/3V3), 51 GND, 52 PERSTO#(I/3V3), 53 CLKREQ0#(IO/3V3), 54 W_DISABLE2#(I/3V3), 55 PEWAKE0#(IO/3V3) (power), 56 W_DISABLE1#(I/3V3), 57 GND, 58 I2C_DATA(IO/1V8), 59 RESERVED/PERP1, 60 I2C_CLK(I/1V8), 61 RESERVED/PERN1 (power), 62 ALERT#(OD/1V8), 63 GND, 64 RESERVED, 65 RESERVED/PETP1, 66 UIM_SWP/PERST1#, 67 RESERVED/PETN1, 68 UIM_POWER_SNK/CLKREQ, 69 GND, 70 UIM_POWER_SRC/GPIO1, 71 RESERVED/REFCLKP1, 72 3V3, 73 RESERVED/REFCLKN1, 74 3V3, 75 GND

## Pad1
designator P?, comment Pad  (value not drawn)
Pad  2.5mm *  2.5mm; Library: Hexabitz
footprint TESTPOINT_1P4MM_SQ
pins: 1

## PH1-01-UA
designator J?
Conn Unshrouded Header HDR 3 POS 2.54mm Solder ST Top Entry Thru-Hole Bag; Manufacturer: Adam Equipment; Manufacturer Part Number: PH1-03-UA; Library: Hexabitz; Supplier: Digikey; Supplier Part Number: 2057-PH1-03-UA-ND; RoHS: Yes; Category: Headers and Wire Housings; Stock: 36063; Pricing: 1=0.1, 10=0.037, 100=0.0311, 500=0.02772, 1000=0.0264, 5000=0.02356, 10000=0.02243 (USD); Lead Free: 5697LeadFree; ComponentLink1URL: https://datasheet.ciiva.com/16396/catpg240-254-16396026.pdf?src-supplier=Future+Electronics; ComponentLink1Description: https://datasheet.ciiva.com/16396/catpg240-254-16396026.pdf?src-supplier=Future+Electronics; Supplier 1: Digikey; Supplier Part Number 1: 2057-PH1-03-UA-ND
footprint HDR1X1
pins: 1

## PH1-02-UA
designator J?
Conn Unshrouded Header HDR 2 POS 2.54mm Solder ST Top Entry Thru-Hole Bag; Manufacturer: Adam Tech; Library: Hexabitz; Contact Resistance: 20mΩ; Current Rating: 3A; Insulation Resistance: 5GΩ; Number of Contacts: 2; Voltage Rating: 250V; Supplier: DigiKey; Supplier Part Number: 2057-PH1-02-UA-ND; Manufacturer Part Number: PH1-02-UA; RoHS: Compliant; Category: Headers and Wire Housings; Stock: 150955; Pricing: 1=0.1, 10=0.033, 100=0.0282, 500=0.0252, 1000=0.024, 5000=0.02141, 10000=0.02039 (USD); Contact Gender: Male; Contact Material: Brass; Contact Plating: Gold; Height: 9.2456mm; Housing Material: PBT; Lead Free: Lead Free; Lifecycle Status: Production; Pins: 2; Number of Positions: 2; Number of Rows: 1; Pitch: 2.54mm; REACH SVHC: Yes; Schedule B: 8536694040, 8536694040|8536694040|8536694040|8536694040|8536694040; Terminal Pitch: 2.54mm; Termination: Solder; ComponentLink1URL: https://datasheet.octopart.com:443/PH1-02-UA-Adam-Tech-datasheet-21182886.pdf?src-supplier=IHS; ComponentLink1Description: https://datasheet.octopart.com:443/PH1-02-UA-Adam-Tech-datasheet-21182886.pdf?src-supplier=IHS; ComponentLink2URL: https://datasheet.octopart.com:443/PH1-02-UA-Adam-Tech-datasheet-502038.pdf?src-supplier=Future+Electronics; ComponentLink2Description: https://datasheet.octopart.com:443/PH1-02-UA-Adam-Tech-datasheet-502038.pdf?src-supplier=Future+Electronics; ComponentLink3URL: https://datasheet.octopart.com:443/PH1-02-UA-Adam-Tech-datasheet-189096092.pdf?src-supplier=Master+Electronics; ComponentLink3Description: https://datasheet.octopart.com:443/PH1-02-UA-Adam-Tech-datasheet-189096092.pdf?src-supplier=Master+Electronics; ComponentLink4URL: http://sigma.octopart.com:80/rohs_statement/Adam-Tech-company-22.pdf?src-supplier=Compliance+Statements; ComponentLink4Description: http://sigma.octopart.com:80/rohs_statement/Adam-Tech-company-22.pdf?src-supplier=Compliance+Statements; ComponentLink5URL: http://sigma.octopart.com:80/reach_statement/Adam-Tech-company-23.pdf?src-supplier=Compliance+Statements; ComponentLink5Description: http://sigma.octopart.com:80/reach_statement/Adam-Tech-company-23.pdf?src-supplier=Compliance+Statements; Supplier 1: DigiKey; Supplier Part Number 1: 2057-PH1-02-UA-ND
footprint HDR1X2
pins: 1, 2

## SDA03H1SBD
designator J?
Switch DIP OFF ON SPST 3 Raised Slide 0.1A 24VDC Gull Wing 1000Cycles 2.54mm SMD Tube; Manufacturer: ITT C&K; Library: Hexabitz; Body Material: Polyphenylene; Actuator Material: Polyamide; Current Rating: 100mA; Voltage Rating (DC): 24V; Contact Resistance: 50mR; Number of Positions: 3; Actuator Type: Slide (Standard); Actuator Length: 1mm; Washable: No; Supplier: Digikey; Supplier Part Number: CKN6062-ND; RoHS: Yes; Category: DIP Switches; Stock: 1447; Pricing: 1=2.2, 10=1.855, 45=1.63867, 135=1.49541, 270=1.41333, 540=1.33833, 1035=1.27451, 2520=1.19745, 5040=1.14527 (USD); Mounting Technology: Surface Mount; Case/Package: DIP; Contact Material: Copper; Contact Plating: Gold; Mechanical Life: 1000Cycles; Min Operating Temperature: -40°C; Max Operating Temperature: 85°C; Packaging: Rail/Tube; Package Quantity: 45; Throw Configuration: SPST; Max Voltage Rating (DC): 24V; Max Current Rating: 100mA; Termination: Gull Wing; Electrical Life: 1000Cycles; Orientation: Straight; Series: SDA; Length: 9.6mm; Terminal Pitch: 2.54mm; Depth: 9.3mm; Radiation Hardening: No; RoHS Compliant: Yes; Lead Free: Lead Free; ComponentLink1URL: https://datasheet.ciiva.com/2865/sda-17mar15-2865437.pdf?src-supplier=Digikey; ComponentLink1Description: https://datasheet.ciiva.com/2865/sda-17mar15-2865437.pdf?src-supplier=Digikey; ComponentLink2URL: https://datasheet.ciiva.com/8678/sda-17mar15-8678842.pdf?src-supplier=Avnet; ComponentLink2Description: https://datasheet.ciiva.com/8678/sda-17mar15-8678842.pdf?src-supplier=Avnet; ComponentLink3URL: https://datasheet.ciiva.com/16200/sda-13may-16200924.pdf?src-supplier=Onlinecomponents.com; ComponentLink3Description: https://datasheet.ciiva.com/16200/sda-13may-16200924.pdf?src-supplier=Onlinecomponents.com; Supplier 1: Digikey; Supplier Part Number 1: CKN6062-ND; Manufacturer Part Number: SDA03H1SBD
footprint SWI_C&K_SDA03H1SBD_3POS
pins: 1 SW1_A, 2 SW2_A, 3 SW3_A, 4 SW3_B, 5 SW2_B, 6 SW1_B

## SJ-3524-SMT-TRU
designator J?, comment SJ-3524-SMT-TR
3.5 mm, Stereo, Right Angle, Surface Mount (SMT), Audio Jack Connector; Manufacturer: Same Sky; GateName_1: G$1; SymbolName_1: SJ-3524-SMT-GR; DeviceName: U; MFN: CUI Devices; Body Color: Black; Shielding: Unshielded; Number of Conductors: 3; Current Rating: 1A; Voltage Rating: 12V; Gender: Female; Library: Hexabitz; LibraryName: HEXABITZ_ICs; DeviceSetName: SJ-3524-SMT-TR; AVAILABILITY: In Stock; MPN: SJ-3524-SMT-TR; OCTOPART_URL: https://octopart.com/search?q=SJ-3524-SMT-TR&currency=USD&specs=0; Supplier: Digikey; Supplier Part Number: CP-3524SJDKR-ND; Manufacturer Part Number: SJ-3524-SMT-TR; RoHS: Yes; Category: Audio / Video Connectors; Stock: 7294; Pricing: 1=0.94, 10=0.796, 25=0.7464, 50=0.7106, 100=0.6767, 250=0.63424, 500=0.60394 (USD); Mounting Technology: Surface Mount; Contact Plating: Silver; Contact Material: Copper Alloy; Housing Material: Nylon; Min Operating Temperature: -25°C; Max Operating Temperature: 85°C; Termination: Solder; Series: SJ; ComponentLink1URL: https://datasheet.ciiva.com/16486/sj-352x-smt-series-16486874.pdf?src-supplier=Future+Electronics; ComponentLink1Description: https://datasheet.ciiva.com/16486/sj-352x-smt-series-16486874.pdf?src-supplier=Future+Electronics; Supplier 1: Digikey; Supplier Part Number 1: CP-3524SJDKR-ND
footprint SJ3524SMTTR
pins: 1, 2, 3, 4

## SJ-43516-SMT-TR
designator J?
3.5 mm, 4 Conductors, Right Angle, Surface Mount (SMT), Audio Jack Connector; Manufacturer: Same Sky; Library: Hexabitz; Shielding: 202Shielding; Current Rating: 300mA; Voltage Rating: 12V; Number of Conductors: 4NUMBER; Supplier: Digikey; Supplier Part Number: CP-43516SJDKR-ND; RoHS: No; Stock: 16426; Pricing: 1=1.11, 10=0.942, 25=0.8828, 50=0.8406, 100=0.8004, 250=0.75024 (USD); Mounting Technology: Surface Mount; ComponentLink1URL: https://datasheet.ciiva.com/16383/sj-4351x-smt-series-16383770.pdf?src-supplier=Future+Electronics; ComponentLink1Description: https://datasheet.ciiva.com/16383/sj-4351x-smt-series-16383770.pdf?src-supplier=Future+Electronics; Supplier 1: Digikey; Supplier Part Number 1: CP-43516SJDKR-ND; Manufacturer Part Number: SJ-43516-SMT-TR
footprint SJ43516SMTTR
pins: 1, 2, 3, 4, 5, 6

## tamplate_1_5_1
designator J?
Library: Hexabitz

## tamplate_1_5_2
designator J?
Library: Hexabitz

## tamplate_1_5_3
designator J?
Library: Hexabitz

## Testpoint_Dup1
designator TP?  (value not drawn)
Library: Hexabitz
footprint TP_SMD_1MM
footprint TP_SMD_0-6MM
footprint TP_SMD_0-3MM
pins: 1 TP

## TL3780AF240QG
designator SW?  (value not drawn)
Switch Tactile N.O. SPST Dome Gull Wing 0.05A 12VDC 2.35N SMD; Manufacturer: E-Switch; Library: Hexabitz; Supplier: Digikey; Supplier Part Number: EG5393DKR-ND; Manufacturer Part Number: TL3780AF240QG; RoHS: Yes; Category: Tactile Switches; Stock: 29044; Pricing: 1=0.3, 10=0.261, 25=0.244, 100=0.2185, 250=0.20248, 500=0.19108, 1000=0.1804, 2500=0.16755 (USD); ComponentLink1URL: http://www.farnell.com/datasheets/2604347.pdf?src-supplier=Farnell; ComponentLink1Description: http://www.farnell.com/datasheets/2604347.pdf?src-supplier=Farnell; ComponentLink2URL: http://www.farnell.com/datasheets/2604347.pdf?src-supplier=Element14; ComponentLink2Description: http://www.farnell.com/datasheets/2604347.pdf?src-supplier=Element14; ComponentLink3URL: http://www.farnell.com/datasheets/2604347.pdf?src-supplier=Newark; ComponentLink3Description: http://www.farnell.com/datasheets/2604347.pdf?src-supplier=Newark; ComponentLink4URL: https://sten-eswitch-13110800-production.s3.amazonaws.com/system/asset/product_line/data_sheet/221/TL3780.pdf?src-supplier=Digikey; ComponentLink4Description: https://sten-eswitch-13110800-production.s3.amazonaws.com/system/asset/product_line/data_sheet/221/TL3780.pdf?src-supplier=Digikey; ComponentLink5URL: https://www.e-switch.com/system/asset/product_line/data_sheet/221/TL3780.pdf?src-supplier=Digikey; ComponentLink5Description: https://www.e-switch.com/system/asset/product_line/data_sheet/221/TL3780.pdf?src-supplier=Digikey; ComponentLink6URL: https://datasheet.octopart.com/TL3780AF240QG-E-Switch-datasheet-165859992.pdf?src-supplier=Future+Electronics; ComponentLink6Description: https://datasheet.octopart.com/TL3780AF240QG-E-Switch-datasheet-165859992.pdf?src-supplier=Future+Electronics; ComponentLink7URL: https://datasheet.octopart.com/TL3780AF240QG-E-Switch-datasheet-103674569.pdf?src-supplier=TME; ComponentLink7Description: https://datasheet.octopart.com/TL3780AF240QG-E-Switch-datasheet-103674569.pdf?src-supplier=TME; Supplier 1: Digikey; Supplier Part Number 1: EG5393DKR-ND
footprint TL3780AF240QG
pins: 1, 2

## TSW-103-07-F-S
designator JP?  (value not drawn)
Conn Unshrouded Header HDR 3 POS 2.54mm Solder ST Top Entry Thru-Hole Bag; Manufacturer: Samtec; Number of Positions: 3; Max Current Rating: 7.6A; Max Voltage Rating (AC): 550V; Gender: Male; Library: Hexabitz; Supplier: Digikey; Supplier Part Number: SAM8995-ND; Manufacturer Part Number: TSW-103-07-F-S; RoHS: Yes; Category: Headers and Wire Housings; Stock: 7580; Pricing: 1=0.17, 50=0.15, 100=0.12, 500=0.1, 1000=0.09, 2000=0.08, 5000=0.072 (USD); Mounting Technology: Through Hole; Contact Plating: Gold; Contact Material: Bronze; Contact Shape: Square; Contact Finish - Mating: GOLD; Insulation Material: PBT; Insulation Color: Black; Housing Color: Black; Housing Material: Polyester; Color: Black; Min Operating Temperature: -55°C; Max Operating Temperature: 125°C; Number of Rows: 1; Packaging: Bag; Termination: Solder; Series: TSW; Connector Type: Header; Contact Type: Male Pin; Fastening Type: Pull; Number of Contacts: 3; Orientation: Vertical; Package Quantity: 1; Length: 7.62mm; Pitch: 2.54mm; Depth: 2.54mm; Contact Mating Length: 0.23inch; RoHS Compliant: Yes; Flammability Rating: UL94 V-0; Reach SVHC Compliant: No; ComponentLink1URL: https://datasheet.ciiva.com/739/tsw-xxx-xx-xxx-x-xx-xxx-mkt-739892.pdf?src-supplier=Digikey; ComponentLink1Description: https://datasheet.ciiva.com/739/tsw-xxx-xx-xxx-x-xx-xxx-mkt-739892.pdf?src-supplier=Digikey; Supplier 1: Digikey; Supplier Part Number 1: SAM8995-ND
footprint CON_SAMTEC_TSW-103-07-F-S
pins: 1, 2, 3

## USB4110-GF-A
designator J?
USB Connector, 16 Contact(s), Male, Right Angle, Surface Mount Terminal, Locking, Receptacle; Manufacturer: Global Connector Technology; Library: Hexabitz; USB Standard: 6108USBStandard; Number of Contacts: 16NUMBER; Voltage Rating: 20V; Supplier: Digikey; Supplier Part Number: 2073-USB4110-GF-A-6-ND; RoHS: No; Category: USB Connectors; Stock: 39010; Pricing: 1=1.24, 10=1.049, 25=0.9836, 50=0.9364, 100=0.8916, 250=0.83576, 500=0.79584 (USD); Pins: 16NUMBER; Contact Material: 153,157ConductorMaterial; Orientation: 5496OrientationType; Height: 3.46mm; ComponentLink1URL: https://datasheet.octopart.com/USB4110-GF-A-Global-Connector-Technology-datasheet-179886649.pdf?src-supplier=Future+Electronics; ComponentLink1Description: https://datasheet.octopart.com/USB4110-GF-A-Global-Connector-Technology-datasheet-179886649.pdf?src-supplier=Future+Electronics; ComponentLink2URL: https://gct.co/files/drawings/usb4110.pdf?src-supplier=Digikey; ComponentLink2Description: https://gct.co/files/drawings/usb4110.pdf?src-supplier=Digikey; Supplier 1: Digikey; Supplier Part Number 1: 2073-USB4110-GF-A-6-ND; Supplier 2: Mouser; Supplier Part Number 2: 640-USB4110-GF-A; Manufacturer Part Number: USB4110-GF-A
footprint FP-USB4110-GF-A-MFG
pins: 1 MNT 1, 2 MNT 2, 3 MNT 3, 4 MNT 4, A1-B12 GND, A4-B9 VBUS (power), A5 CC1 (power), A6 Dp1 (io), A7 Dn1 (io), A8 SBU1 (io), B1-A12 GND (io), B4-A9 VBUS (power), B5 CC2 (power), B6 Dp2 (io), B7 Dn2 (io), B8 SBU2 (io)